# Altium footprint library 40_Pin_Connector.PcbLib: 1 footprints
Each footprint in its own frame and in the unit in brackets; x right, y up, seen from the top. Pads: shape width x height; smd on the part's side, far side on the other; paste and mask are expansions set on the pad; w line width, h text height; cw(c..) or ccw(c..) is an arc to the next point about the centre after c.
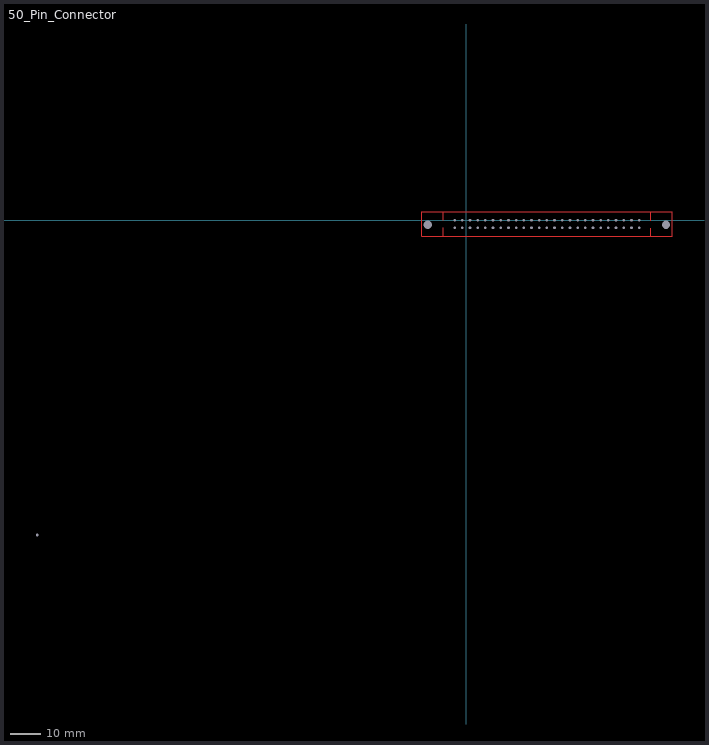
[diagram p0: the footprint, top view; thin cyan lines are the x and y axes]

## 50_Pin_Connector [mm]
pads (88):
  round 0 hole 0.89: 1(-3.81,0) 1(-3.81,0) 2(-141.732,-104.013) 2(-1.27,0) 2(-1.27,0) 3(1.27,0) 3(1.27,0) 4(3.81,0) 4(3.81,0) 5(6.35,0) 5(6.35,0) 6(8.89,0) 6(8.89,0) 7(11.43,0) 7(11.43,0) 8(13.97,0) 8(13.97,0) 9(16.51,0) 9(16.51,0) 10(19.05,0) 10(19.05,0) 11(21.59,0) 11(21.59,0) 12(24.13,0) 12(24.13,0) 13(26.67,0) 13(26.67,0) 14(29.21,0) 14(29.21,0) 15(31.75,0) 15(31.75,0) 16(34.29,0) 16(34.29,0) 16(34.29,0) 16(34.29,0) 17(36.83,0) 17(36.83,0) 17(36.83,0) 17(36.83,0) 18(39.37,0) 18(39.37,0) 18(39.37,0) 18(39.37,0) 19(41.91,0) 19(41.91,0) 19(41.91,0) 19(41.91,0) 20(44.45,0) 20(44.45,0) 20(44.45,0) 20(44.45,0) 21(46.99,0) 22(49.53,0) 23(52.07,0) 24(54.61,0) 25(57.15,0) 26(-3.81,-2.54) 27(-1.27,-2.54) 28(1.27,-2.54) 29(3.81,-2.54) 30(6.35,-2.54) 31(8.89,-2.54) 32(11.43,-2.54) 33(13.97,-2.54) 34(16.51,-2.54) 35(19.05,-2.54) 36(21.59,-2.54) 36(21.59,-2.54) 37(24.13,-2.54) 37(24.13,-2.54) 38(26.67,-2.54) 38(26.67,-2.54) 39(29.21,-2.54) 39(29.21,-2.54) 40(31.75,-2.54) 40(31.75,-2.54) 41(34.29,-2.54) 42(36.83,-2.54) 43(39.37,-2.54) 44(41.91,-2.54) 45(44.45,-2.54) 46(46.99,-2.54) 47(49.53,-2.54) 48(52.07,-2.54) 49(54.61,-2.54) 50(57.15,-2.54)
  round 0 hole 2.69: 51(66.04,-1.524) 52(-12.7,-1.524)
Top Layer:
  lines w0.254: -7.62,-2.54 -7.62,-5.334 ; -7.62,0 -7.62,2.794 ; 60.96,-5.334 60.96,-2.667 ; 60.96,-0.127 60.96,2.667 ; -7.62,-5.334 -14.732,-5.334 -14.732,2.794 -7.62,2.794 ; -7.62,-5.334 -3.81,-5.334 44.45,-5.334 46.482,-5.334 57.277,-5.334 57.531,-5.334 59.055,-5.334 68.072,-5.334 68.072,2.794 59.055,2.794 57.531,2.794 57.15,2.794 46.355,2.794 -3.81,2.794 -7.62,2.794